# Altium schematic symbol library W25Q32.Schlib: 1 symbol
Pins are listed as number, name and electrical type; pins without a type are passive.

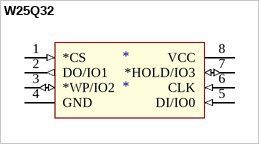
[diagram p0: symbol W25Q32]

## W25Q32
designator *
pins: 1 *CS (in), 2 DO/IO1 (out), 3 *WP/IO2 (io), 4 GND (power), 5 DI/IO0 (in), 6 CLK (in), 7 *HOLD/IO3 (io), 8 VCC (power)